# Altium schematic symbol library TNPW06033K65BEEA.SchLib: 1 symbol
Pins are listed as number, name and electrical type; pins without a type are passive.

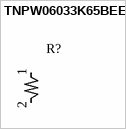
[diagram p0: symbol TNPW06033K65BEEA]

## TNPW06033K65BEEA
designator R?
TNPW0603 5K11 0.1% T-9 ET1 e3; Manufacturer_Name: Vishay; Manufacturer_Part_Number: TNPW06033K65BEEA; Datasheet: https://www.vishay.com/doc?28758
pins: 1, 2